# EAGLE library part CAN-TRANSCEIVER (library CAN-D)
MCP2562 Series 5 V Surface Mount High-Speed CAN Transceiver - SOIC-8
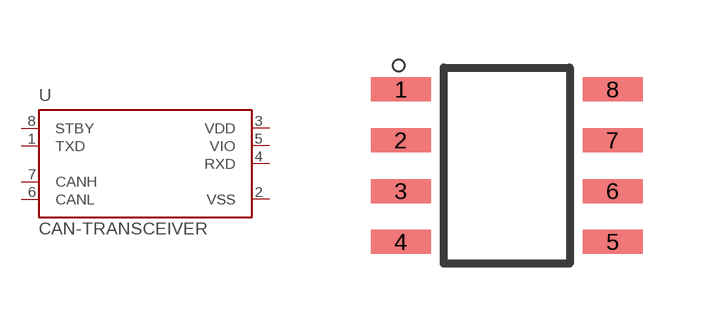
[diagram p5: symbol with the pads of MCP2562-E/SN; footprint MCP2562-E/SN]

Designator prefix U

## CAN-TRANSCEIVER (AVAILABILITY: Unavailable; DESCRIPTION: Microchip MCP2562-E/SN, CAN Transceiver 1MBps 1-channel IEC 61000-4-2, 8-Pin SOIC; MF: Microchip; MP: MCP2562-E/SN; PACKAGE: SO-8 Microchip; PRICE: None)  [MCP2562-E/SN]
1  TXD  in
2  VSS  pwr
3  VDD  pwr
4  RXD  out
5  VIO  pwr
6  CANL  in
7  CANH  in
8  STBY  in

## Footprint MCP2562-E/SN (pad centres in mm)
smd 1.5 x 0.6: 1 -2.65,1.905; 2 -2.65,0.635; 3 -2.65,-0.635; 4 -2.65,-1.905; 5 2.65,-1.905; 6 2.65,-0.635; 7 2.65,0.635; 8 2.65,1.905